# Altium footprint library SAMTEC-TSW-103-07-X-S.PCBLIB: 1 footprints
Each footprint in its own frame and in the unit in brackets; x right, y up, seen from the top. Pads: shape width x height; smd on the part's side, far side on the other; paste and mask are expansions set on the pad; w line width, h text height; cw(c..) or ccw(c..) is an arc to the next point about the centre after c.
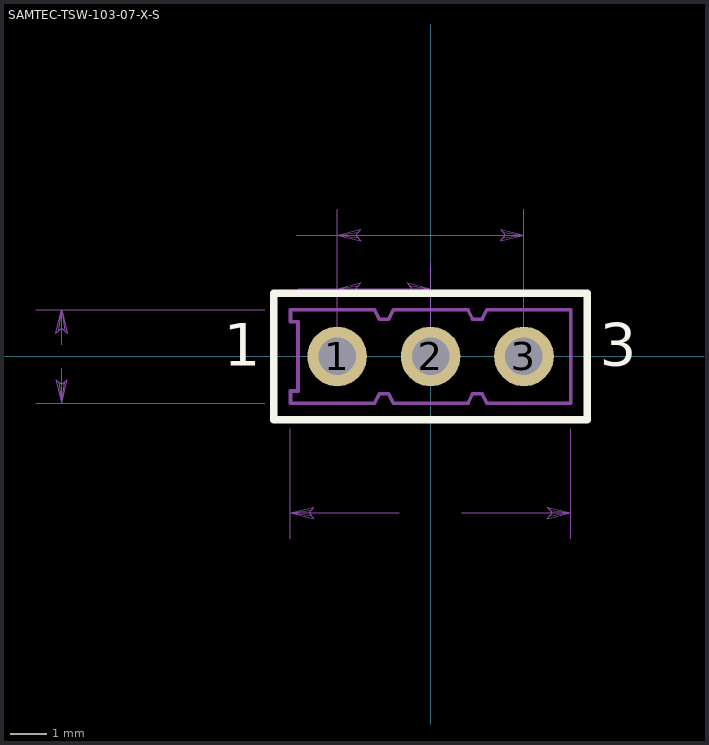
[diagram p0: the footprint, top view; thin cyan lines are the x and y axes]

## SAMTEC-TSW-103-07-X-S [mm]
pads (3):
  round 1.62 hole 1.02: 1(-2.54,0) 2(0,0) 3(2.54,0)
Top Overlay:
  lines w0.2: -4.26,-1.72 -4.26,1.72 4.26,1.72 4.26,-1.72 -4.26,-1.72
  text "1" at -5.63,-0.635 h1.97
  text "3" at 4.601,-0.635 h1.97
Top Solder:
  circle w0: c-2.54,0 r0.861
  circle w0: c0,0 r0.861
  circle w0: c2.54,0 r0.861
Bottom Solder:
  circle w0: c-2.54,0 r0.861
  circle w0: c0,0 r0.861
  circle w0: c2.54,0 r0.861
Mechanical 16:
  lines w0.1: -3.81,-1.27 -3.81,-0.94 -3.607,-0.94 -3.607,0.94 -3.81,0.94 -3.81,1.27 -1.524,1.27 -1.4,1.016 -1.27,1.016 -1.14,1.016 -1.016,1.27 1.016,1.27 1.14,1.016 1.27,1.016 1.4,1.016 1.524,1.27 3.81,1.27 3.81,-1.27 1.524,-1.27 1.4,-1.016 1.27,-1.016 1.14,-1.016 1.016,-1.27 -1.016,-1.27 -1.14,-1.016 -1.27,-1.016 -1.4,-1.016 -1.524,-1.27 -3.81,-1.27 ; -2.858,-0.318 -2.858,0.318 -2.222,0.318 -2.222,-0.318 -2.858,-0.318 ; -0.318,-0.318 -0.318,0.318 0.318,0.318 0.318,-0.318 -0.318,-0.318 ; 2.222,-0.318 2.222,0.318 2.858,0.318 2.858,-0.318 2.222,-0.318
  text "1" at -5.63,-0.635 h1.97
  text "3" at 4.601,-0.635 h1.97
Mechanical 40:
  lines w0: -10.734,-1.27 -4.511,-1.27 ; -10.734,1.27 -4.511,1.27 ; -10.033,-0.318 -10.033,-1.27 ; -10.033,0.318 -10.033,1.27 ; -3.81,-4.956 -3.81,-1.971 ; -3.658,3.302 -2.54,3.302 ; -3.594,1.842 -2.54,1.842 ; -2.54,2.543 -2.54,0.701 -2.54,4.003 ; -0.851,-4.254 -3.81,-4.254 ; 0,0.701 0,2.543 ; 0.851,-4.254 3.81,-4.254 ; 2.54,0.701 2.54,4.003 ; 3.81,-4.956 3.81,-1.971 ; -10.192,-0.635 -10.033,-1.27 ; -10.192,-0.635 -10.033,-0.762 ; -10.192,-0.635 -10.112,-0.698 -10.033,-1.27 ; -10.033,-1.27 -9.874,-0.635 -10.033,-0.762 ; -10.033,-1.27 -9.954,-0.698 -10.033,-0.762 ; -10.033,-1.27 -10.033,-0.762 ; -10.033,0.762 -10.192,0.635 -10.033,1.27 ; -10.033,0.762 -9.874,0.635 ; -10.033,0.762 -10.112,0.698 -10.033,1.27 ; -10.033,0.762 -10.033,1.27 ; -10.033,1.27 -9.874,0.635 ; -10.033,1.27 -9.954,0.698 -9.874,0.635 ; -3.81,-4.254 -3.175,-4.096 ; -3.81,-4.254 -3.175,-4.413 -3.302,-4.254 ; -3.81,-4.254 -3.238,-4.334 -3.302,-4.254 ; -3.81,-4.254 -3.302,-4.254 ; -3.81,-4.254 -3.238,-4.175 -3.175,-4.096 ; -3.302,-4.254 -3.175,-4.096 ; -2.54,1.842 -1.905,2 ; -2.54,1.842 -1.905,1.683 -2.032,1.842 ; -2.54,1.842 -1.968,1.762 -2.032,1.842 ; -2.54,1.842 -2.032,1.842 ; -2.54,1.842 -1.968,1.921 -1.905,2 ; -2.54,1.842 0,1.842 ; -2.54,3.302 -1.905,3.461 ; -2.54,3.302 -1.905,3.143 -2.032,3.302 ; -2.54,3.302 -1.968,3.223 -2.032,3.302 ; -2.54,3.302 -2.032,3.302 ; -2.54,3.302 -1.968,3.381 -1.905,3.461 ; -2.54,3.302 2.54,3.302 ; -2.032,1.842 -1.905,2 ; -2.032,3.302 -1.905,3.461 ; -0.635,1.683 0,1.842 ; -0.635,1.683 -0.508,1.842 ; -0.635,1.683 -0.572,1.762 0,1.842 ; -0.508,1.842 -0.635,2 0,1.842 ; -0.508,1.842 -0.572,1.921 0,1.842 ; -0.508,1.842 0,1.842 ; 1.905,3.143 2.54,3.302 ; 1.905,3.143 2.032,3.302 ; 1.905,3.143 1.968,3.223 2.54,3.302 ; 2.032,3.302 1.905,3.461 2.54,3.302 ; 2.032,3.302 1.968,3.381 2.54,3.302 ; 2.032,3.302 2.54,3.302 ; 3.175,-4.413 3.81,-4.254 ; 3.175,-4.413 3.302,-4.254 ; 3.175,-4.413 3.238,-4.334 3.81,-4.254 ; 3.302,-4.254 3.175,-4.096 3.81,-4.254 ; 3.302,-4.254 3.238,-4.175 3.81,-4.254 ; 3.302,-4.254 3.81,-4.254
  text "2.540" at -10.693,-0.127 h0.39
  text "2.540" at -5.105,1.714 h0.39
  text "5.080" at -5.169,3.175 h0.39
  text "7.620" at -0.66,-4.382 h0.39
Mechanical 42:
  lines w0.1: -4.26,-1.72 -4.26,1.72 4.26,1.72 4.26,-1.72 -4.26,-1.72